# EAGLE library part TS5A3160DBVR (library ruark2)
MUX 1 Circuit IC Switch 2:1 900 mOhm SOT-23-6
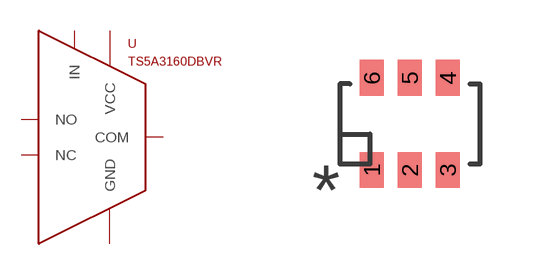
[diagram p38: symbol with the pads of SOT23-6; footprint SOT23-6]

Designator prefix U

## TS5A3160DBVR (PARTNO: 296-21189-1-ND)  [SOT23-6]
1  NO  pas
2  GND  pas
3  NC  pas
4  COM  pas
5  VCC  pas
6  IN  pas

## Footprint SOT23-6 (pad centres in mm)
smd 0.6 x 0.9: 1 -0.95,-1.15; 2 0,-1.15; 3 0.95,-1.15; 4 0.95,1.15; 5 0,1.15; 6 -0.95,1.15